# EAGLE library part HFS68R2 (library con-thomas-betts)
THOMAS&BETTS
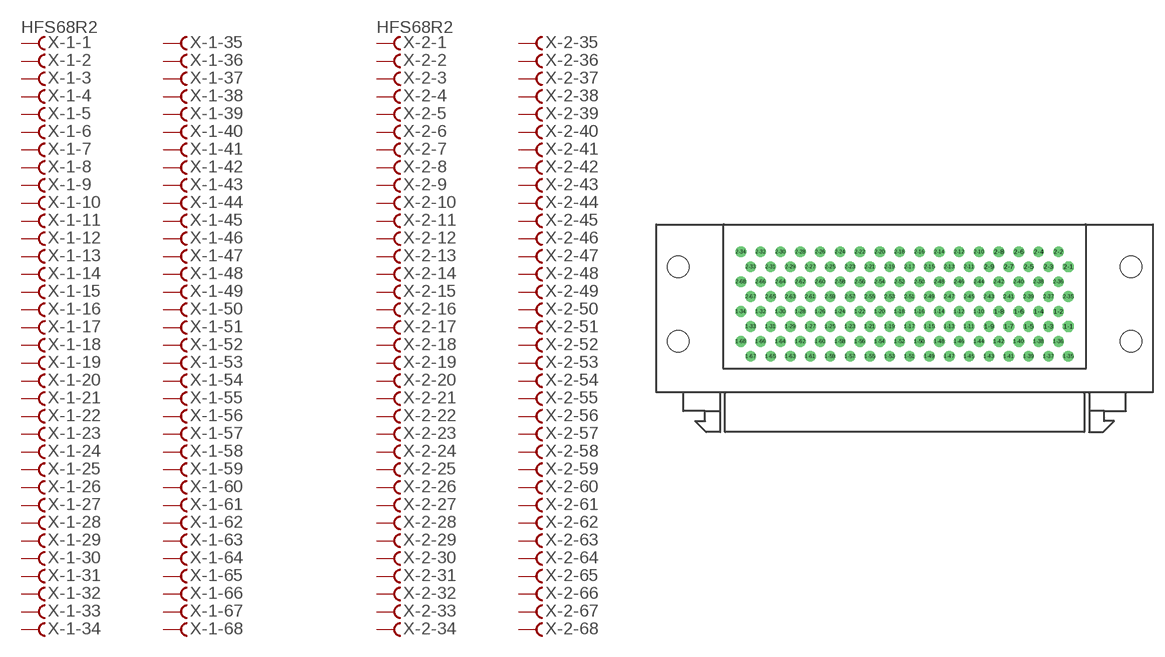
[diagram p9: symbol with the pads of HFS68R; footprint HFS68R]

Designator prefix X; gates -1-1=FV -1-2=F -1-3=F -1-4=F -1-5=F -1-6=F -1-7=F -1-8=F -1-9=F -1-10=F -1-11=F -1-12=F -1-13=F -1-14=F -1-15=F -1-16=F -1-17=F -1-18=F -1-19=F -1-20=F -1-21=F -1-22=F -1-23=F -1-24=F -1-25=F -1-26=F -1-27=F -1-28=F -1-29=F -1-30=F -1-31=F -1-32=F -1-33=F -1-34=F -1-35=F -1-36=F -1-37=F -1-38=F -1-39=F -1-40=F -1-41=F -1-42=F -1-43=F -1-44=F -1-45=F -1-46=F -1-47=F -1-48=F -1-49=F -1-50=F -1-51=F -1-52=F -1-53=F -1-54=F -1-55=F -1-56=F -1-57=F -1-58=F -1-59=F -1-60=F -1-61=F -1-62=F -1-63=F -1-64=F -1-65=F -1-66=F -1-67=F -1-68=F -2-1=FV -2-2=F -2-3=F -2-4=F -2-5=F -2-6=F -2-7=F -2-8=F -2-9=F -2-10=F -2-11=F -2-12=F -2-13=F -2-14=F -2-15=F -2-16=F -2-17=F -2-18=F -2-19=F -2-20=F -2-21=F -2-22=F -2-23=F -2-24=F -2-25=F -2-26=F -2-27=F -2-28=F -2-29=F -2-30=F -2-31=F -2-32=F -2-33=F -2-34=F -2-35=F -2-36=F -2-37=F -2-38=F -2-39=F -2-40=F -2-41=F -2-42=F -2-43=F -2-44=F -2-45=F -2-46=F -2-47=F -2-48=F -2-49=F -2-50=F -2-51=F -2-52=F -2-53=F -2-54=F -2-55=F -2-56=F -2-57=F -2-58=F -2-59=F -2-60=F -2-61=F -2-62=F -2-63=F -2-64=F -2-65=F -2-66=F -2-67=F -2-68=F

## HFS68R2  [HFS68R]
1-1  -1-1:F  pas
1-2  -1-2:F  pas
1-3  -1-3:F  pas
1-4  -1-4:F  pas
1-5  -1-5:F  pas
1-6  -1-6:F  pas
1-7  -1-7:F  pas
1-8  -1-8:F  pas
1-9  -1-9:F  pas
1-10  -1-10:F  pas
1-11  -1-11:F  pas
1-12  -1-12:F  pas
1-13  -1-13:F  pas
1-14  -1-14:F  pas
1-15  -1-15:F  pas
1-16  -1-16:F  pas
1-17  -1-17:F  pas
1-18  -1-18:F  pas
1-19  -1-19:F  pas
1-20  -1-20:F  pas
1-21  -1-21:F  pas
1-22  -1-22:F  pas
1-23  -1-23:F  pas
1-24  -1-24:F  pas
1-25  -1-25:F  pas
1-26  -1-26:F  pas
1-27  -1-27:F  pas
1-28  -1-28:F  pas
1-29  -1-29:F  pas
1-30  -1-30:F  pas
1-31  -1-31:F  pas
1-32  -1-32:F  pas
1-33  -1-33:F  pas
1-34  -1-34:F  pas
1-35  -1-35:F  pas
1-36  -1-36:F  pas
1-37  -1-37:F  pas
1-38  -1-38:F  pas
1-39  -1-39:F  pas
1-40  -1-40:F  pas
1-41  -1-41:F  pas
1-42  -1-42:F  pas
1-43  -1-43:F  pas
1-44  -1-44:F  pas
1-45  -1-45:F  pas
1-46  -1-46:F  pas
1-47  -1-47:F  pas
1-48  -1-48:F  pas
1-49  -1-49:F  pas
1-50  -1-50:F  pas
1-51  -1-51:F  pas
1-52  -1-52:F  pas
1-53  -1-53:F  pas
1-54  -1-54:F  pas
1-55  -1-55:F  pas
1-56  -1-56:F  pas
1-57  -1-57:F  pas
1-58  -1-58:F  pas
1-59  -1-59:F  pas
1-60  -1-60:F  pas
1-61  -1-61:F  pas
1-62  -1-62:F  pas
1-63  -1-63:F  pas
1-64  -1-64:F  pas
1-65  -1-65:F  pas
1-66  -1-66:F  pas
1-67  -1-67:F  pas
1-68  -1-68:F  pas
2-1  -2-1:F  pas
2-2  -2-2:F  pas
2-3  -2-3:F  pas
2-4  -2-4:F  pas
2-5  -2-5:F  pas
2-6  -2-6:F  pas
2-7  -2-7:F  pas
2-8  -2-8:F  pas
2-9  -2-9:F  pas
2-10  -2-10:F  pas
2-11  -2-11:F  pas
2-12  -2-12:F  pas
2-13  -2-13:F  pas
2-14  -2-14:F  pas
2-15  -2-15:F  pas
2-16  -2-16:F  pas
2-17  -2-17:F  pas
2-18  -2-18:F  pas
2-19  -2-19:F  pas
2-20  -2-20:F  pas
2-21  -2-21:F  pas
2-22  -2-22:F  pas
2-23  -2-23:F  pas
2-24  -2-24:F  pas
2-25  -2-25:F  pas
2-26  -2-26:F  pas
2-27  -2-27:F  pas
2-28  -2-28:F  pas
2-29  -2-29:F  pas
2-30  -2-30:F  pas
2-31  -2-31:F  pas
2-32  -2-32:F  pas
2-33  -2-33:F  pas
2-34  -2-34:F  pas
2-35  -2-35:F  pas
2-36  -2-36:F  pas
2-37  -2-37:F  pas
2-38  -2-38:F  pas
2-39  -2-39:F  pas
2-40  -2-40:F  pas
2-41  -2-41:F  pas
2-42  -2-42:F  pas
2-43  -2-43:F  pas
2-44  -2-44:F  pas
2-45  -2-45:F  pas
2-46  -2-46:F  pas
2-47  -2-47:F  pas
2-48  -2-48:F  pas
2-49  -2-49:F  pas
2-50  -2-50:F  pas
2-51  -2-51:F  pas
2-52  -2-52:F  pas
2-53  -2-53:F  pas
2-54  -2-54:F  pas
2-55  -2-55:F  pas
2-56  -2-56:F  pas
2-57  -2-57:F  pas
2-58  -2-58:F  pas
2-59  -2-59:F  pas
2-60  -2-60:F  pas
2-61  -2-61:F  pas
2-62  -2-62:F  pas
2-63  -2-63:F  pas
2-64  -2-64:F  pas
2-65  -2-65:F  pas
2-66  -2-66:F  pas
2-67  -2-67:F  pas
2-68  -2-68:F  pas

## Footprint HFS68R (pad centres in mm)
THOMAS&BETTS Fine Pitch "D" Connector HFS68Rx29x
drill 0.864 octagon: 1-1 20.955,6.96; 2-1 20.955,14.6
drill 0.864 round: 1-2 19.685,8.87; 1-3 18.415,6.96; 1-4 17.145,8.87; 1-5 15.875,6.96; 1-6 14.605,8.87; 1-7 13.335,6.96; 1-8 12.065,8.87; 1-9 10.795,6.96; 1-10 9.525,8.87; 1-11 8.255,6.96; 1-12 6.985,8.87; 1-13 5.715,6.96; 1-14 4.445,8.87; 1-15 3.175,6.96; 1-16 1.905,8.87; 1-17 0.635,6.96; 1-18 -0.635,8.87; 1-19 -1.905,6.96; 1-20 -3.175,8.87; 1-21 -4.445,6.96; 1-22 -5.715,8.87; 1-23 -6.985,6.96; 1-24 -8.255,8.87; 1-25 -9.525,6.96; 1-26 -10.795,8.87; 1-27 -12.065,6.96; 1-28 -13.335,8.87; 1-29 -14.605,6.96; 1-30 -15.875,8.87; 1-31 -17.145,6.96; 1-32 -18.415,8.87; 1-33 -19.685,6.96; 1-34 -20.955,8.87; 1-35 20.955,3.14; 1-36 19.685,5.05; 1-37 18.415,3.14; 1-38 17.145,5.05; 1-39 15.875,3.14; 1-40 14.605,5.05; 1-41 13.335,3.14; 1-42 12.065,5.05; 1-43 10.795,3.14; 1-44 9.525,5.05; 1-45 8.255,3.14; 1-46 6.985,5.05; 1-47 5.715,3.14; 1-48 4.445,5.05; 1-49 3.175,3.14; 1-50 1.905,5.05; 1-51 0.635,3.14; 1-52 -0.635,5.05; 1-53 -1.905,3.14; 1-54 -3.175,5.05; 1-55 -4.445,3.14; 1-56 -5.715,5.05; 1-57 -6.985,3.14; 1-58 -8.255,5.05; 1-59 -9.525,3.14; 1-60 -10.795,5.05; 1-61 -12.065,3.14; 1-62 -13.335,5.05; 1-63 -14.605,3.14; 1-64 -15.875,5.05; 1-65 -17.145,3.14; 1-66 -18.415,5.05; 1-67 -19.685,3.14; 1-68 -20.955,5.05; 2-2 19.685,16.51; 2-3 18.415,14.6; 2-4 17.145,16.51; 2-5 15.875,14.6; 2-6 14.605,16.51; 2-7 13.335,14.6; 2-8 12.065,16.51; 2-9 10.795,14.6; 2-10 9.525,16.51; 2-11 8.255,14.6; 2-12 6.985,16.51; 2-13 5.715,14.6; 2-14 4.445,16.51; 2-15 3.175,14.6; 2-16 1.905,16.51; 2-17 0.635,14.6; 2-18 -0.635,16.51; 2-19 -1.905,14.6; 2-20 -3.175,16.51; 2-21 -4.445,14.6; 2-22 -5.715,16.51; 2-23 -6.985,14.6; 2-24 -8.255,16.51; 2-25 -9.525,14.6; 2-26 -10.795,16.51; 2-27 -12.065,14.6; 2-28 -13.335,16.51; 2-29 -14.605,14.6; 2-30 -15.875,16.51; 2-31 -17.145,14.6; 2-32 -18.415,16.51; 2-33 -19.685,14.6; 2-34 -20.955,16.51; 2-35 20.955,10.78; 2-36 19.685,12.69; 2-37 18.415,10.78; 2-38 17.145,12.69; 2-39 15.875,10.78; 2-40 14.605,12.69; 2-41 13.335,10.78; 2-42 12.065,12.69; 2-43 10.795,10.78; 2-44 9.525,12.69; 2-45 8.255,10.78; 2-46 6.985,12.69; 2-47 5.715,10.78; 2-48 4.445,12.69; 2-49 3.175,10.78; 2-50 1.905,12.69; 2-51 0.635,10.78; 2-52 -0.635,12.69; 2-53 -1.905,10.78; 2-54 -3.175,12.69; 2-55 -4.445,10.78; 2-56 -5.715,12.69; 2-57 -6.985,10.78; 2-58 -8.255,12.69; 2-59 -9.525,10.78; 2-60 -10.795,12.69; 2-61 -12.065,10.78; 2-62 -13.335,12.69; 2-63 -14.605,10.78; 2-64 -15.875,12.69; 2-65 -17.145,10.78; 2-66 -18.415,12.69; 2-67 -19.685,10.78; 2-68 -20.955,12.69
hole 2.769 at 28.956,5.05
hole 2.769 at -28.956,5.05
hole 2.769 at 28.956,14.6
hole 2.769 at -28.956,14.6